# Altium footprint library custLib.PcbLib: 48 footprints (part 1 of 3)
Each footprint in its own frame and in the unit in brackets; x right, y up, seen from the top. Pads: shape width x height; smd on the part's side, far side on the other; paste and mask are expansions set on the pad; w line width, h text height; cw(c..) or ccw(c..) is an arc to the next point about the centre after c.
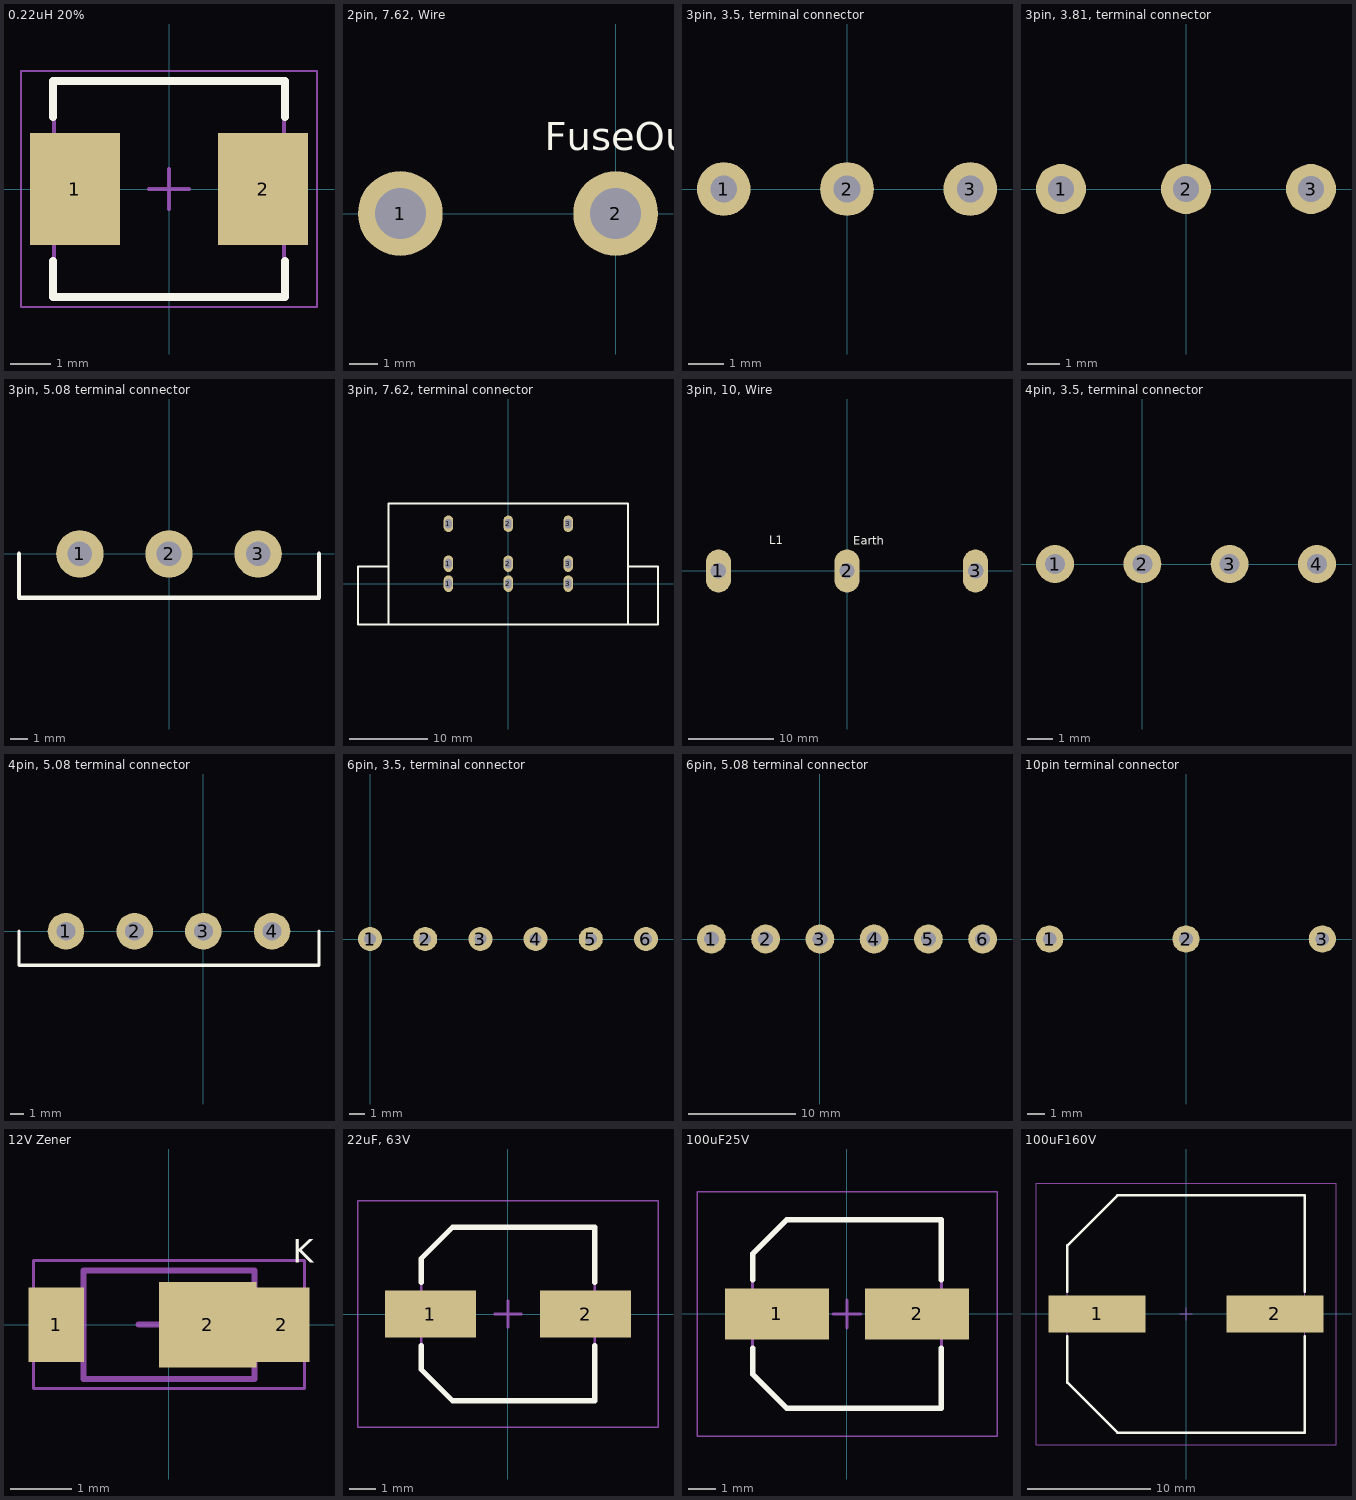
[diagram p0: the footprints below, top view; thin cyan lines are the x and y axes]

## 0.22uH 20% [mm] "Festinduktivitäten .22uH 20%, 21 A"
height 1.2
pads (2):
  rect 2.25x2.79 smd: 1(-2.35,0) 2(2.35,0)
Top Overlay:
  lines w0.2: -2.9,-1.795 -2.9,-2.7 2.9,-2.7 2.9,-1.795 ; -2.9,1.795 -2.9,2.7 2.9,2.7 2.9,1.795
Mechanical 13:
  lines w0.1: -2.87,-2.7 -2.87,2.7 2.87,2.7 2.87,-2.7 -2.87,-2.7
Mechanical 15:
  lines w0.05: -3.7,-2.95 -3.7,2.95 3.7,2.95 3.7,-2.95 -3.7,-2.95
  lines w0.1: -0.5,0 0.5,0 ; 0,-0.5 0,0.5
3D body: height 1.2, standoff 0, extent -2.87,-2.7 2.87,2.7

## 2pin, 7.62, Wire [mm]
pads (2):
  round 3 hole 1.8: 1(-7.62,0) 2(0,0)
Top Overlay:
  text "FuseOut" at -2.515,2.235 h1

## 3pin, 3.5, terminal connector [mil] "3pin, 3.5mm terminal connector"
pads (3):
  round 60 hole 30: 1(-137.8,0) 2(0,0) 3(137.8,0)
3D body "3pin head 3_5mm.stp": height 287.4, standoff -129.92, extent -220.48,-47.25 224.41,314.96

## 3pin, 3.81, terminal connector [mil] "3pin, 3.81mm, terminal connector"
pads (3):
  round 60 hole 31.5: 1(-150,0) 2(0,0) 3(150,0)
3D body "Phoenix Contact 3.81mm Pluggable Terminal Block.SLDPRT": height 275.59, standoff 0, extent -252.36,-177.95 102.36,235.44
3D body "Phoenix Contact 3.81mm Pluggable Terminal Block.SLDPRT": height 275.59, standoff 0, extent -102.37,-178.95 252.36,234.43

## 3pin, 5.08 terminal connector [mm] "3pin, 5.08, terminal connector"
pads (3):
  round 2.7 hole 1.4: 1(-5.08,0) 2(0,0) 3(5.08,0)
Top Overlay:
  lines w0.254: -8.55,0 -8.55,-2.5 8.55,-2.5 8.55,0
3D body "pcb terminal conector 3d.stp": height 8.3, standoff -3.9, extent -2.54,-2.1 7.62,10
3D body "pcb terminal conector 3d.stp": height 8.3, standoff -3.9, extent -7.62,-2.1 2.54,10

## 3pin, 7.62, terminal connector [mm] "3pin, 7.62, terminal connector"
pads (9):
  oval 1.2x2.1 hole 0.8 slot 1.2 at 90 deg: 1(-7.62,0) 1(-7.62,2.54) 1(-7.62,7.62) 2(0,0) 2(0,2.54) 2(0,7.62) 3(7.62,0) 3(7.62,2.54) 3(7.62,7.62)
Top Overlay:
  lines w0.254: -19.116,-5.2 -19.116,2.159 -15.316,2.159 ; -19.04,-5.2 -15.24,-5.2 ; 15.24,2.159 18.964,2.159 ; 19.04,2.159 19.04,-5.2 15.24,-5.2 ; -15.24,-5.2 -15.24,10.2 15.24,10.2 15.24,-5.2 ; -15.24,-5.2 15.24,-5.2
3D body "Phoenix Contact 3.81mm Pluggable Terminal Block.SLDPRT": height 7, standoff 0, extent 6.239,-19.874 15.249,-9.374
3D body "Phoenix Contact 3.81mm Pluggable Terminal Block.SLDPRT": height 7, standoff 0, extent -14.995,-19.925 -5.985,-9.425
3D body "Phoenix Contact 3.81mm Pluggable Terminal Block.SLDPRT": height 7, standoff 0, extent -1.381,-19.874 7.629,-9.374
3D body "Phoenix Contact 3.81mm Pluggable Terminal Block.SLDPRT": height 7, standoff 0, extent -9.229,-19.925 -0.219,-9.425

## 3pin, 10, Wire [mm]
pads (3):
  oval 2.9x5 hole 1.8: 1(-15,0) 2(0,0) 3(15,0)
Top Overlay:
  text "Earth" at 0.711,3.048 h1
  text "L1" at -9.042,3.124 h1

## 4pin, 3.5, terminal connector [mil] "4pin, 3.5mm terminal connector"
pads (4):
  round 60 hole 31.5: 1(-137.8,0) 2(0,0) 3(137.8,0) 4(275.59,0)
3D body "3pin head 3_5mm.stp": height 287.4, standoff -129.92, extent -82.68,-47.25 362.2,314.96
3D body "3pin head 3_5mm.stp": height 287.4, standoff -129.92, extent -220.48,-47.25 224.41,314.96

## 4pin, 5.08 terminal connector [mm] "4pin, 5.08, terminal connector"
pads (4):
  round 2.7 hole 1.4: 1(-10.16,0) 2(-5.08,0) 3(0,0) 4(5.08,0)
Top Overlay:
  lines w0.254: -13.63,0 -13.63,-2.5 3.47,-2.5 ; -8.55,-2.5 8.55,-2.5 8.55,0
3D body "pcb terminal conector 3d.stp": height 8.3, standoff -3.9, extent -2.54,-2.1 7.62,10
3D body "pcb terminal conector 3d.stp": height 8.3, standoff -3.9, extent -7.62,-2.1 2.54,10
3D body "pcb terminal conector 3d.stp": height 8.3, standoff -3.9, extent -12.7,-2.1 -2.54,10

## 6pin, 3.5, terminal connector [mil] "6pin, 3.5mm terminal connector"
pads (6):
  round 60 hole 30: 1(0,0) 2(137.8,0) 3(275.59,0) 4(413.39,0) 5(551.18,0) 6(688.98,0)
3D body "3pin head 3_5mm.stp": height 287.4, standoff -129.92, extent -82.68,-47.25 362.2,314.96
3D body "3pin head 3_5mm.stp": height 287.4, standoff -129.92, extent 55.11,-47.25 500,314.96
3D body "3pin head 3_5mm.stp": height 287.4, standoff -129.92, extent 330.7,-47.25 775.59,314.96

## 6pin, 5.08 terminal connector [mm] "6pin, 5.08, terminal connector"
pads (6):
  round 2.7 hole 1.4: 1(-10.16,0) 2(-5.08,0) 3(0,0) 4(5.08,0) 5(10.16,0) 6(15.24,0)
3D body "pcb terminal conector 3d.stp": height 8.3, standoff -3.9, extent -2.54,-2.1 7.62,10
3D body "pcb terminal conector 3d.stp": height 8.3, standoff -3.9, extent -7.62,-2.1 2.54,10
3D body "pcb terminal conector 3d.stp": height 8.3, standoff -3.9, extent -12.7,-2.1 -2.54,10
3D body "pcb terminal conector 3d.stp": height 8.3, standoff -3.9, extent 2.54,-2.1 12.7,10
3D body "pcb terminal conector 3d.stp": height 8.3, standoff -3.9, extent 7.62,-2.1 17.78,10

## 10pin terminal connector [mil]
pads (3):
  round 60 hole 30: 1(-300,0) 2(0,0) 3(300,0)
3D body "Phoenix Contact 3.81mm Pluggable Terminal Block.SLDPRT": height 275.59, standoff 0, extent -346.36,-336.44 8.36,76.95
3D body "Phoenix Contact 3.81mm Pluggable Terminal Block.SLDPRT": height 275.59, standoff 0, extent 8.36,-336.44 363.09,76.95

## 12V Zener [mm] "SODFL, 2-Leads, Body 1,71x3,60mm, IPC Medium Density"
height 0.93
pads (3):
  rect 0.91x1.22 smd: 1(-1.85,0) 2(1.85,0)
  rect 1.6x1.4 smd: 2(0.635,0)
Top Overlay:
  text "K" at 2.032,1.016 h0.38
Mechanical 13:
  lines w0.1: -1.4,-0.89 -1.4,0.89 1.4,0.89 1.4,-0.89 -1.4,-0.89
Mechanical 15:
  lines w0.05: -2.225,-1.05 -2.225,1.05 2.225,1.05 2.225,-1.05 -2.225,-1.05
  lines w0.1: -0.5,0 0.5,0 ; 0,-0.5 0,0.5
3D body: height 0.93, standoff 0, extent -1.4,-0.89 1.4,0.89

## 22uF, 63V [mm] "EEH-ZA1J220XP"
height 7.7
pads (2):
  rect 3.45x1.8 smd: 1(-2.95,0) 2(2.95,0)
Top Overlay:
  lines w0.2: -3.3,-1.2 -3.3,-2.1 -2.1,-3.3 3.3,-3.3 3.3,-1.2 ; -3.3,1.2 -3.3,2.1 -2.1,3.3 3.3,3.3 3.3,1.2
Mechanical 13:
  lines w0.1: -3.3,-2.1 -2.1,-3.3 3.3,-3.3 3.3,3.3 -2.1,3.3 -3.3,2.1 -3.3,-2.1
Mechanical 15:
  lines w0.05: -5.7,-4.3 -5.7,4.3 5.7,4.3 5.7,-4.3 -5.7,-4.3
  lines w0.1: -0.5,0 0.5,0 ; 0,-0.5 0,0.5
3D body: height 2.57, standoff 0, extent -3.3,-3.3 3.3,3.3
3D body: height 7.7, standoff 0, extent -3.15,-3.15 3.15,3.144

## 100uF25V [mm] "100uF25V, Aluminum Electrolytic Capacitor, Body 6,60x6,60x6,30mm, IPC Low Density"
height 6.3
pads (2):
  rect 3.75x1.85 smd: 1(-2.525,0) 2(2.525,0)
Top Overlay:
  lines w0.2: -3.4,-1.225 -3.4,-2.163 -2.162,-3.4 3.4,-3.4 3.4,-1.225 ; -3.4,1.225 -3.4,2.163 -2.162,3.4 3.4,3.4 3.4,1.225
Mechanical 13:
  lines w0.1: -3.4,-2.163 -3.4,2.163 -2.162,3.4 3.4,3.4 3.4,-3.4 -2.162,-3.4 -3.4,-2.163
Mechanical 15:
  lines w0.05: -5.4,-4.4 5.4,-4.4 5.4,4.4 -5.4,4.4 -5.4,-4.4
  lines w0.1: -0.5,0 0.5,0 ; 0,-0.5 0,0.5
3D body: height 6.3, standoff 0, extent -3.4,-3.4 3.4,3.4
3D body: height 2.1, standoff 0, extent -3.4,-3.4 3.4,3.4

## 100uF160V [mm] "Aluminum Electrolytic Capacitor, Body 19,00x19,00x21,50mm, IPC Low Density"
height 21.5
pads (2):
  rect 7.85x3 smd: 1(-7.2,0) 2(7.2,0)
Top Overlay:
  lines w0.2: -9.6,-1.8 -9.6,-5.55 -5.55,-9.6 9.6,-9.6 9.6,-1.8 ; -9.6,1.8 -9.6,5.55 -5.55,9.6 9.6,9.6 9.6,1.8
Mechanical 13:
  lines w0.1: -9.6,-5.55 -5.55,-9.6 9.6,-9.6 9.6,9.6 -5.55,9.6 -9.6,5.55 -9.6,-5.55
Mechanical 15:
  lines w0.05: -12.15,-10.6 -12.15,10.6 12.15,10.6 12.15,-10.6 -12.15,-10.6
  lines w0.1: -0.5,0 0.5,0 ; 0,-0.5 0,0.5
3D body: height 7.17, standoff 0, extent -9.6,-9.6 9.6,9.6
3D body: height 21.5, standoff 0, extent -9.25,-9.25 9.25,9.25